# EAGLE library part 0.96_LITE (library Displays)
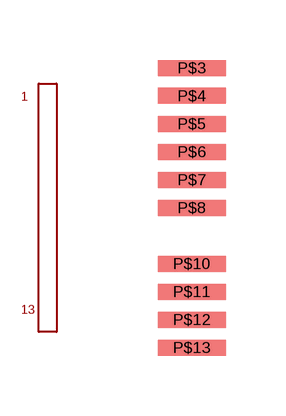
[diagram p1: symbol with the pads of 0.96_LITE; footprint 0.96_LITE]

Designator prefix -

## 0.96_LITE  [0.96_LITE]
P$3  P$3
P$4  P$4
P$5  P$5
P$6  P$6
P$7  P$7
P$8  P$8
P$10  P$10
P$11  P$11
P$12  P$12
P$13  P$13

## Footprint 0.96_LITE (pad centres in mm)
smd 1.7 x 0.4: P$3 0,2.8; P$4 0,2.1; P$5 0,1.4; P$6 0,0.7; P$7 0,0; P$8 0,-0.7; P$10 0,-2.1; P$11 0,-2.8; P$12 0,-3.5; P$13 0,-4.2